# EAGLE library part CON-HIROSE_5034803200 (library oled_array_v1)
0.5mm Pitch Connectors For FPC/FFC Source: Data sheet <http://www.hirose.co.jp/cataloge_hp/e58605370.pdf>
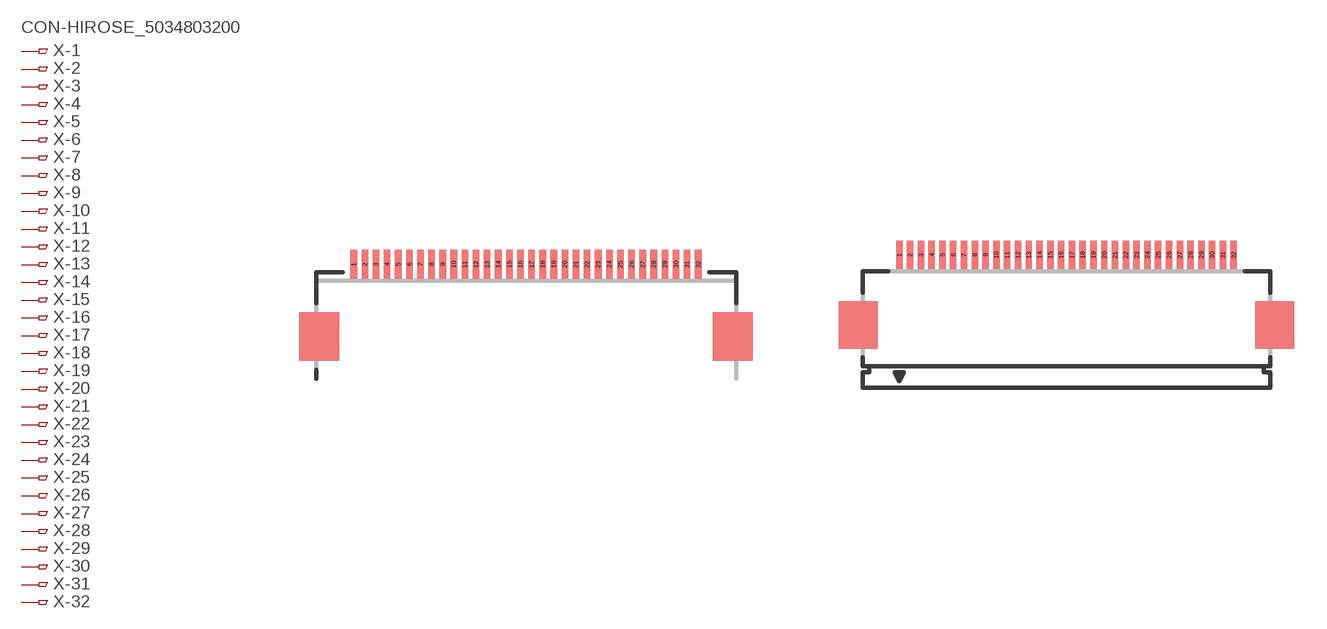
[diagram p1: symbol with the pads of CON-HIROSE_5034803200; footprints CON-HIROSE_5034803200, CON-HIROSE_FH12-32S-0.5SH]

Designator prefix X; gates -1=CON-HIROSE_PINV -2=CON-HIROSE_PIN -3=CON-HIROSE_PIN -4=CON-HIROSE_PIN -5=CON-HIROSE_PIN -6=CON-HIROSE_PIN -7=CON-HIROSE_PIN -8=CON-HIROSE_PIN -9=CON-HIROSE_PIN -10=CON-HIROSE_PIN -11=CON-HIROSE_PIN -12=CON-HIROSE_PIN -13=CON-HIROSE_PIN -14=CON-HIROSE_PIN -15=CON-HIROSE_PIN -16=CON-HIROSE_PIN -17=CON-HIROSE_PIN -18=CON-HIROSE_PIN -19=CON-HIROSE_PIN -20=CON-HIROSE_PIN -21=CON-HIROSE_PIN -22=CON-HIROSE_PIN -23=CON-HIROSE_PIN -24=CON-HIROSE_PIN -25=CON-HIROSE_PIN -26=CON-HIROSE_PIN -27=CON-HIROSE_PIN -28=CON-HIROSE_PIN -29=CON-HIROSE_PIN -30=CON-HIROSE_PIN -31=CON-HIROSE_PIN -32=CON-HIROSE_PIN

## CON-HIROSE_5034803200  [CON-HIROSE_5034803200]
1  -1:1  pas
2  -2:1  pas
3  -3:1  pas
4  -4:1  pas
5  -5:1  pas
6  -6:1  pas
7  -7:1  pas
8  -8:1  pas
9  -9:1  pas
10  -10:1  pas
11  -11:1  pas
12  -12:1  pas
13  -13:1  pas
14  -14:1  pas
15  -15:1  pas
16  -16:1  pas
17  -17:1  pas
18  -18:1  pas
19  -19:1  pas
20  -20:1  pas
21  -21:1  pas
22  -22:1  pas
23  -23:1  pas
24  -24:1  pas
25  -25:1  pas
26  -26:1  pas
27  -27:1  pas
28  -28:1  pas
29  -29:1  pas
30  -30:1  pas
31  -31:1  pas
32  -32:1  pas

## CON-HIROSE_5034803200H (OC_FARNELL: unknown; OC_NEWARK: unknown)  [CON-HIROSE_FH12-32S-0.5SH]
Pads as for CON-HIROSE_5034803200

## Footprint CON-HIROSE_5034803200 (pad centres in mm)
0.5mm Pitch Connectors For FPC/FFC Source: Data sheet <http://www.hirose.co.jp/cataloge_hp/e58605370.pdf>
smd 0.3 x 1.3: 1 -7.75,3.25; 2 -7.25,3.25; 3 -6.75,3.25; 4 -6.25,3.25; 5 -5.75,3.25; 6 -5.25,3.25; 7 -4.75,3.25; 8 -4.25,3.25; 9 -3.75,3.25; 10 -3.25,3.25; 11 -2.75,3.25; 12 -2.25,3.25; 13 -1.75,3.25; 14 -1.25,3.25; 15 -0.75,3.25; 16 -0.25,3.25; 17 0.25,3.25; 18 0.75,3.25; 19 1.25,3.25; 20 1.75,3.25; 21 2.25,3.25; 22 2.75,3.25; 23 3.25,3.25; 24 3.75,3.25; 25 4.25,3.25; 26 4.75,3.25; 27 5.25,3.25; 28 5.75,3.25; 29 6.25,3.25; 30 6.75,3.25; 31 7.25,3.25; 32 7.75,3.25

## Footprint CON-HIROSE_FH12-32S-0.5SH (pad centres in mm)
0.5mm Pitch Connectors For FPC/FFC Source: Data sheet <http://www.hirose.co.jp/cataloge_hp/e58605370.pdf>
smd 0.3 x 1.3: 1 -7.75,3.25; 2 -7.25,3.25; 3 -6.75,3.25; 4 -6.25,3.25; 5 -5.75,3.25; 6 -5.25,3.25; 7 -4.75,3.25; 8 -4.25,3.25; 9 -3.75,3.25; 10 -3.25,3.25; 11 -2.75,3.25; 12 -2.25,3.25; 13 -1.75,3.25; 14 -1.25,3.25; 15 -0.75,3.25; 16 -0.25,3.25; 17 0.25,3.25; 18 0.75,3.25; 19 1.25,3.25; 20 1.75,3.25; 21 2.25,3.25; 22 2.75,3.25; 23 3.25,3.25; 24 3.75,3.25; 25 4.25,3.25; 26 4.75,3.25; 27 5.25,3.25; 28 5.75,3.25; 29 6.25,3.25; 30 6.75,3.25; 31 7.25,3.25; 32 7.75,3.25